# Altium schematic symbol library Parkinsonstester.SchLib: 3 symbols
Pins are listed as number, name and electrical type; pins without a type are passive.

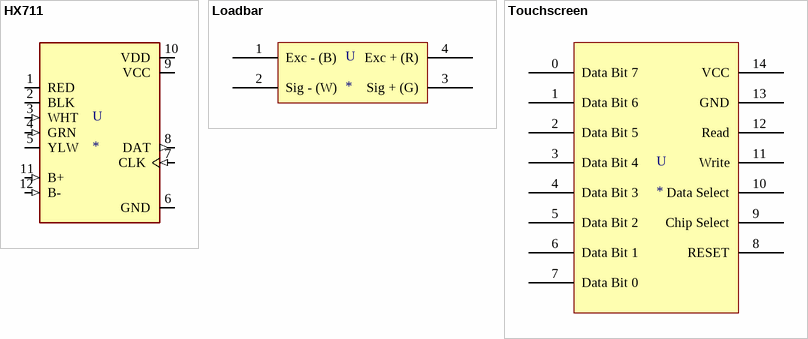
[diagram p0: symbols HX711 to Touchscreen]

## HX711
designator U
External Input Sensor Amplifier; MP: SEN-13879; MF: SparkFun; Package: None; Price: None; Availability: Unavailable; Value: *; SnapEDA_Link: https://www.snapeda.com/parts/SEN-13879/SparkFun%20Electronics/view-part/563337/?ref=snap
footprint SPARKFUN_SEN-13879
pins: 1 RED (io), 2 BLK (io), 3 WHT (in), 4 GRN (in), 5 YLW (io), 6 GND (power), 7 CLK (in), 8 DAT (out), 9 VCC (power), 10 VDD (power), 11 B+ (in), 12 B- (in)

## Loadbar
designator U
pins: 1 Exc - (B), 2 Sig - (W), 3 Sig + (G), 4 Exc + (R)

## Touchscreen
designator U
pins: 0 Data Bit 7, 1 Data Bit 6, 2 Data Bit 5, 3 Data Bit 4, 4 Data Bit 3, 5 Data Bit 2, 6 Data Bit 1, 7 Data Bit 0, 8 RESET, 9 Chip Select, 10 Data Select, 11 Write, 12 Read, 13 GND, 14 VCC